# Altium footprint library USBConn_Assman_AuY1006R.PcbLib: 1 footprints
Each footprint in its own frame and in the unit in brackets; x right, y up, seen from the top. Pads: shape width x height; smd on the part's side, far side on the other; paste and mask are expansions set on the pad; w line width, h text height; cw(c..) or ccw(c..) is an arc to the next point about the centre after c.
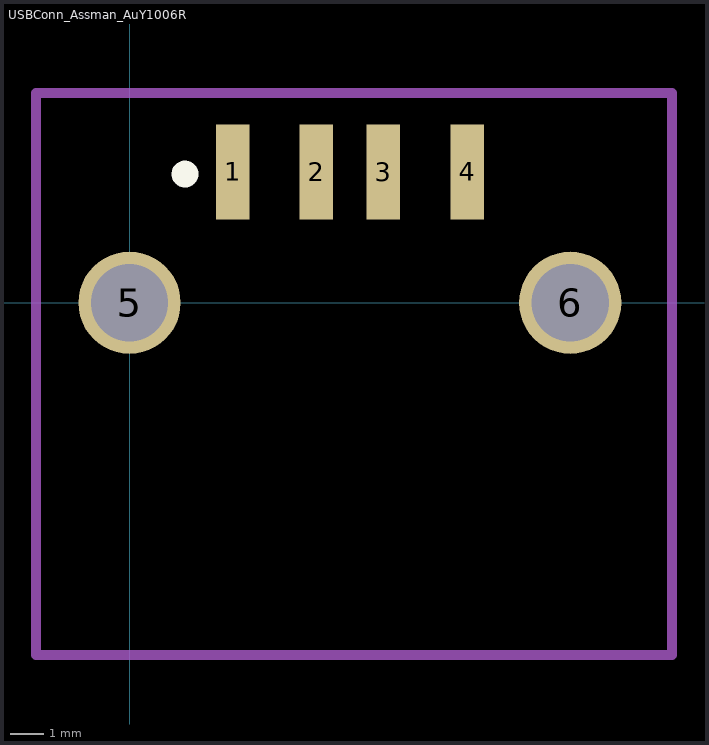
[diagram p0: the footprint, top view; thin cyan lines are the x and y axes]

## USBConn_Assman_AuY1006R [mm]
height 7.2
pads (6):
  rect 1x2.84 smd paste+0.254 mask+0.254: 1(3.073,3.9) 2(5.57,3.9) 3(7.57,3.9) 4(10.07,3.9)
  round 3.048 hole 2.3: 5(0,0) 6(13.14,0)
Top Overlay:
  circle w0.4: c1.654,3.835 r0.2
Mechanical 1:
  lines w0.3: -2.794,6.198 -2.794,-10.5 16.18,-10.5 16.18,6.248 -2.794,6.248
3D body: height 7.2, standoff 0, extent -3.01,-10.72 16.42,6.42